# EAGLE library part DMC4015SSD (library TRN_Open_Servo)
DMC4015SSD COMPLEMENTARY PAIR ENHANCEMENT MODE MOSFET Description This new generation MOSFET is designed to minimize the on-state resistance (RDS(ON)) yet maintain superior switching performance, which makes it ideal for high-efficiency power management applications. Applications DC-DC Converters Power Management Functions Backlighting
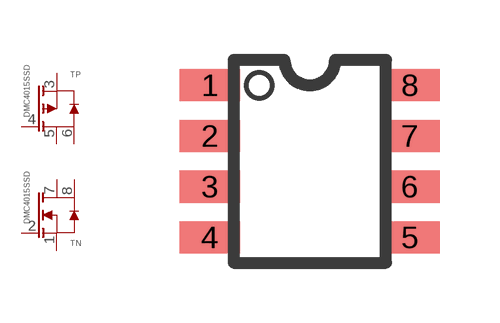
[diagram p0: symbol with the pads of SO-8; footprint SO-8]

Designator prefix T; gates N=N-CHANNEL P=P-CHANNEL

## DMC4015SSD-13  [SO-8]
1  N:S
2  N:G
3  P:S
4  P:G
5  P:D
6  P:D
7  N:D
8  N:D

## Footprint SO-8 (pad centres in mm)
SO-8 package for power MOSFET
smd 1.505 x 0.802: 1 -2.5,1.905; 2 -2.5,0.635; 3 -2.5,-0.635; 4 -2.5,-1.905; 5 2.5,-1.905; 6 2.5,-0.635; 7 2.5,0.635; 8 2.5,1.905